# EAGLE library part SAML10 (library ARM_Cortex_23)
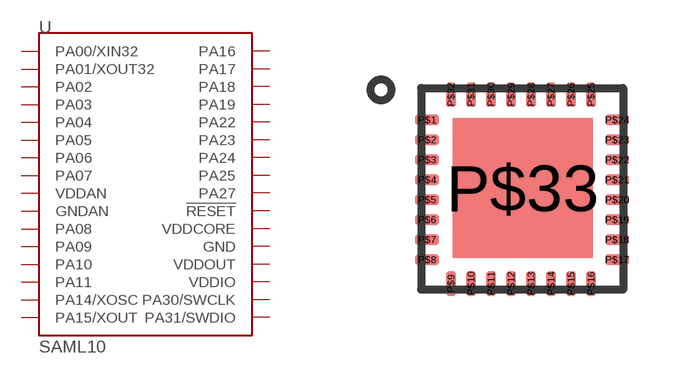
[diagram p0: symbol with the pads of ATSAML10E15A-MU-ND; footprint ATSAML10E15A-MU-ND]

Designator prefix U

## SAML10  [ATSAML10E15A-MU-ND]
P$1  PA00/XIN32
P$2  PA01/XOUT32
P$3  PA02
P$4  PA03
P$5  PA04
P$6  PA05
P$7  PA06
P$8  PA07
P$9  VDDAN  pwr
P$10  GNDAN  pwr
P$11  PA08
P$12  PA09
P$13  PA10
P$14  PA11
P$15  PA14/XOSC
P$16  PA15/XOUT
P$17  PA16
P$18  PA17
P$19  PA18
P$20  PA19
P$21  PA22
P$22  PA23
P$23  PA24
P$24  PA25
P$25  PA27
P$26  !RESET
P$27  VDDCORE  pwr
P$28  GND  pwr
P$29  VDDOUT  pwr
P$30  VDDIO  pwr
P$31  PA30/SWCLK
P$32  PA31/SWDIO

## Footprint ATSAML10E15A-MU-ND (pad centres in mm)
smd 0.6 x 0.25: P$1 0.15,4.25; P$2 0.15,3.75; P$3 0.15,3.25; P$4 0.15,2.75; P$5 0.15,2.25; P$6 0.15,1.75; P$7 0.15,1.25; P$8 0.15,0.75; P$17 4.9,0.75; P$18 4.9,1.25; P$19 4.9,1.75; P$20 4.9,2.25; P$21 4.9,2.75; P$22 4.9,3.25; P$23 4.9,3.75; P$24 4.9,4.25
smd 0.25 x 0.6: P$9 0.75,0.15; P$10 1.25,0.15; P$11 1.75,0.15; P$12 2.25,0.15; P$13 2.75,0.15; P$14 3.25,0.15; P$15 3.75,0.15; P$16 4.25,0.15; P$25 4.25,4.88; P$26 3.75,4.88; P$27 3.25,4.88; P$28 2.75,4.88; P$29 2.25,4.88; P$30 1.75,4.88; P$31 1.25,4.88; P$32 0.75,4.88
smd 3.5 x 3.5: P$33 2.54,2.54